# Altium schematic symbol library SamacSys.SchLib: 13 symbols
Pins are listed as number, name and electrical type; pins without a type are passive.

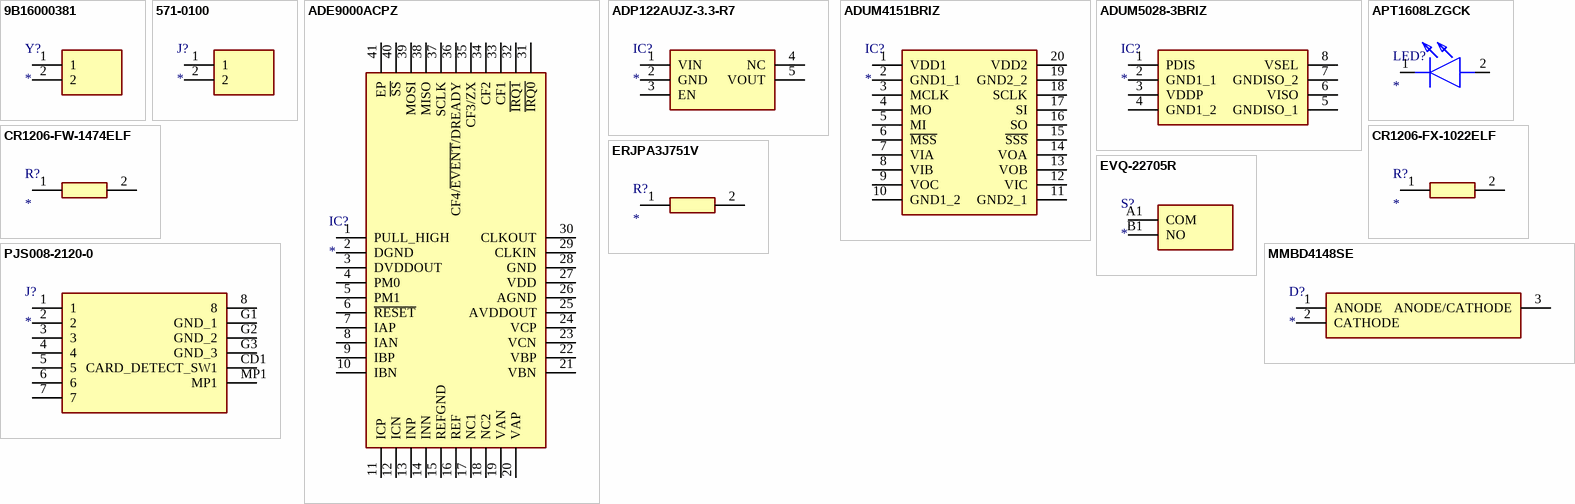
[diagram p0: symbols 9B16000381 to PJS008-2120-0]

## 9B16000381
designator Y?
Crystal or Oscillator; Manufacturer_Name: TXC; Manufacturer_Part_Number: 9B16000381; Datasheet Link: http://www.txccorp.com/download/products/quartz_crystals/2015TXC_9B_33.pdf; Arrow Part Number: 9B16000381
footprint HC-49S_1
pins: 1, 2

## 571-0100
designator J?
Connector; Manufacturer_Name: Deltron; Manufacturer_Part_Number: 571-0100; Datasheet Link: https://www.dem-uk.com/deltron-components/Data/Product_Downloads/deltron-571-0100-4mm-90deg-single-socket-data.pdf; Height: 12.4mm; Mouser Part Number: 164-6218; Mouser Price/Stock: https://www.mouser.co.uk/ProductDetail/Deltron/571-0100?qs=E2gf03EXmtoqC8%2FBhoPdrg%3D%3D
footprint 5710100
pins: 1, 2

## ADE9000ACPZ
designator IC?
Integrated Circuit; Manufacturer_Name: Analog Devices; Manufacturer_Part_Number: ADE9000ACPZ; Datasheet Link: http://www.analog.com/media/en/technical-documentation/data-sheets/ADE9000.pdf; Height: 0.8mm; Arrow Part Number: ADE9000ACPZ; Arrow Price/Stock: https://www.arrow.com/en/products/ade9000acpz/analog-devices; Mouser Part Number: 584-ADE9000ACPZ; Mouser Price/Stock: https://www.mouser.co.uk/ProductDetail/Analog-Devices/ADE9000ACPZ?qs=OpCP5Wdiozdy7qaFsotrPg%3D%3D
footprint QFN50P600X600X80-41N
pins: 1 PULL_HIGH, 2 DGND, 3 DVDDOUT, 4 PM0, 5 PM1, 6 ~{RESET}, 7 IAP, 8 IAN, 9 IBP, 10 IBN, 11 ICP, 12 ICN, 13 INP, 14 INN, 15 REFGND, 16 REF, 17 NC1, 18 NC2, 19 VAN, 20 VAP, 21 VBN, 22 VBP, 23 VCN, 24 VCP, 25 AVDDOUT, 26 AGND, 27 VDD, 28 GND, 29 CLKIN, 30 CLKOUT, 31 ~{IRQ0}, 32 ~{IRQ1}, 33 CF1, 34 CF2, 35 CF3/ZX, 36 CF4/~{EVENT}/DREADY, 37 SCLK, 38 MISO, 39 MOSI, 40 ~{SS}, 41 EP

## ADP122AUJZ-3.3-R7
designator IC?
Integrated Circuit; Manufacturer_Name: Analog Devices; Manufacturer_Part_Number: ADP122AUJZ-3.3-R7; Datasheet Link: http://uk.rs-online.com/web/p/products/9128071; Height: 1mm; Arrow Part Number: ADP122AUJZ-3.3-R7; Arrow Price/Stock: https://www.arrow.com/en/products/adp122aujz-3.3-r7/analog-devices; Mouser Part Number: 584-ADP122AUJZ-3.3R7; Mouser Price/Stock: https://www.mouser.co.uk/ProductDetail/Analog-Devices/ADP122AUJZ-33-R7?qs=BpaRKvA4VqERsawSFjb%252Blw%3D%3D
footprint SOT95P280X100-5N
pins: 1 VIN, 2 GND, 3 EN, 4 NC, 5 VOUT

## ADUM4151BRIZ
designator IC?
Integrated Circuit; Manufacturer_Name: Analog Devices; Manufacturer_Part_Number: ADUM4151BRIZ; Datasheet Link: http://www.analog.com/media/en/technical-documentation/data-sheets/ADuM4151_4152_4153.pdf; Height: 2.64mm; Arrow Part Number: ADUM4151BRIZ; Arrow Price/Stock: https://www.arrow.com/en/products/adum4151briz/analog-devices; Mouser Part Number: 584-ADUM4151BRIZ; Mouser Price/Stock: https://www.mouser.co.uk/ProductDetail/Analog-Devices/ADUM4151BRIZ?qs=iCT64eccu7hBfyU9ooJLRg%3D%3D
footprint SOIC127P1031X264-20N
pins: 1 VDD1, 2 GND1_1, 3 MCLK, 4 MO, 5 MI, 6 ~{MSS}, 7 VIA, 8 VIB, 9 VOC, 10 GND1_2, 11 GND2_1, 12 VIC, 13 VOB, 14 VOA, 15 ~{SSS}, 16 SO, 17 SI, 18 SCLK, 19 GND2_2, 20 VDD2

## ADUM5028-3BRIZ
designator IC?
Integrated Circuit; Manufacturer_Name: Linear Technology; Manufacturer_Part_Number: ADUM5028-3BRIZ; Datasheet Link: https://componentsearchengine.com/Datasheets/1/ADUM5028-3BRIZ.pdf; Height: 2.65mm; Mouser Part Number: 584-ADUM5028-3BRIZ; Mouser Price/Stock: https://www.mouser.com/Search/Refine.aspx?Keyword=584-ADUM5028-3BRIZ
footprint SOIC127P1031X265-8N
pins: 1 PDIS, 2 GND1_1, 3 VDDP, 4 GND1_2, 5 GNDISO_1, 6 VISO, 7 GNDISO_2, 8 VSEL

## APT1608LZGCK
designator LED?
LED; Manufacturer_Name: Kingbright; Manufacturer_Part_Number: APT1608LZGCK; Datasheet Link: https://www.mouser.com/datasheet/2/216/APT1608LZGCK-535830.pdf; Height: 0.85mm; Arrow Part Number: APT1608LZGCK; Arrow Price/Stock: https://www.arrow.com/en/products/apt1608lzgck/kingbright; Mouser Part Number: 604-APT1608LZGCK; Mouser Price/Stock: https://www.mouser.co.uk/ProductDetail/Kingbright/APT1608LZGCK?qs=6oMev5NRZMFGFINT%2FafRYg%3D%3D
footprint LEDC1608X85N
pins: 1 K, 2 A

## CR1206-FW-1474ELF
designator R?
Resistor; Manufacturer_Name: Bourns; Manufacturer_Part_Number: CR1206-FW-1474ELF; Height: 0.75mm; Arrow Part Number: CR1206-FW-1474ELF; Arrow Price/Stock: https://www.arrow.com/en/products/cr1206-fw-1474elf/bourns; Mouser Part Number: 652-CR1206-FW1474ELF; Mouser Price/Stock: https://www.mouser.co.uk/ProductDetail/Bourns/CR1206-FW-1474ELF?qs=NPAmerw%2FZTucZEantdDn9g%3D%3D
footprint RESC3216X75N
pins: 1, 2

## CR1206-FX-1022ELF
designator R?
Resistor; Manufacturer_Name: Bourns; Manufacturer_Part_Number: CR1206-FX-1022ELF; Datasheet Link: http://componentsearchengine.com/Datasheets/1/CR1206-FX-1022ELF.pdf; Height: 0.75mm; Arrow Part Number: CR1206-FX-1022ELF; Arrow Price/Stock: https://www.arrow.com/en/products/cr1206-fx-1022elf/bourns; Mouser Part Number: 652-CR1206FX-1022ELF; Mouser Price/Stock: https://www.mouser.co.uk/ProductDetail/Bourns/CR1206-FX-1022ELF?qs=3wWX5hyYeeRJQVfgTvfo2Q%3D%3D
footprint RESC3216X75N
pins: 1, 2

## ERJPA3J751V
designator R?
Resistor; Manufacturer_Name: Panasonic; Manufacturer_Part_Number: ERJPA3J751V; Datasheet Link: https://industrial.panasonic.com/cdbs/www-data/pdf/RDA0000/AOA0000C243.pdf; Height: 0.55mm
footprint RESC1608X55N
pins: 1, 2

## EVQ-22705R
designator S?
Switch; Manufacturer_Name: Panasonic; Manufacturer_Part_Number: EVQ-22705R; Datasheet Link: https://www.mouser.com/datasheet/2/315/sw_lt_eng_5n_2r-1099494.pdf; Height: 5mm; Arrow Part Number: EVQ-22705R; Arrow Price/Stock: https://www.arrow.com/en/products/evq-22705r/panasonic; Mouser Part Number: 667-EVQ-22705R; Mouser Price/Stock: https://www.mouser.co.uk/ProductDetail/Panasonic/EVQ-22705R?qs=WwqriLBepZv9VD2fPMeXiQ%3D%3D
footprint EVQ22705R
pins: A1 COM, B1 NO

## MMBD4148SE
designator D?
Diode; Manufacturer_Name: ON Semiconductor; Manufacturer_Part_Number: MMBD4148SE; Datasheet Link: http://www.onsemi.com/pub/Collateral/MMBD4148SE-D.pdf; Height: 1.2mm; Arrow Part Number: MMBD4148SE; Arrow Price/Stock: https://www.arrow.com/en/products/mmbd4148se/on-semiconductor; Mouser Part Number: 512-MMBD4148SE; Mouser Price/Stock: https://www.mouser.co.uk/ProductDetail/ON-Semiconductor-Fairchild/MMBD4148SE?qs=E58pcOqB2RIih%2Fj%252BJ4dF7g%3D%3D
footprint SOT95P240X120-3N
pins: 1 ANODE, 2 CATHODE, 3 ANODE/CATHODE

## PJS008-2120-0
designator J?
Connector; Manufacturer_Name: Yamaichi; Manufacturer_Part_Number: PJS008-2120-0; Datasheet Link: https://componentsearchengine.com/Datasheets/1/PJS008-2120-0.pdf; Height: 1.5mm; Mouser Part Number: 945-PJS008-2120-0; Mouser Price/Stock: https://www.mouser.co.uk/ProductDetail/Yamaichi-Electronics/PJS008-2120-0?qs=pDnM3xHIg41mTHT1wk7bvQ%3D%3D
footprint PJS00821200
pins: 1, 2, 3, 4, 5, 6, 7, 8, CD1 CARD_DETECT_SW1, G1 GND_1, G2 GND_2, G3 GND_3, MP1